# EAGLE library part BLACK_PILL_STM32 (library BLDC project)
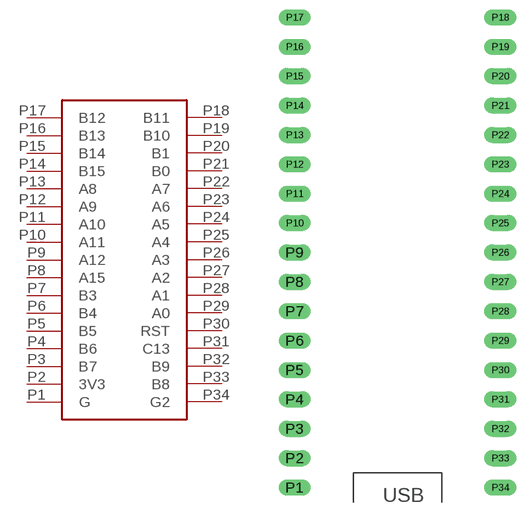
[diagram p1: symbol with the pads of BLACK_PILL_STM32; footprint BLACK_PILL_STM32]

Designator prefix -

## BLACK_PILL_STM32  [BLACK_PILL_STM32]
P1  G
P2  3V3
P3  B7
P4  B6
P5  B5
P6  B4
P7  B3
P8  A15
P9  A12
P10  A11
P11  A10
P12  A9
P13  A8
P14  B15
P15  B14
P16  B13
P17  B12
P18  B11
P19  B10
P20  B1
P21  B0
P22  A7
P23  A6
P24  A5
P25  A4
P26  A3
P27  A2
P28  A1
P29  A0
P30  RST
P31  C13
P32  B9
P33  B8
P34  G2

## Footprint BLACK_PILL_STM32 (pad centres in mm)
drill 0.889 long: P1 1.27,1.27; P2 1.27,3.81; P3 1.27,6.35; P4 1.27,8.89; P5 1.27,11.43; P6 1.27,13.97; P7 1.27,16.51; P8 1.27,19.05; P9 1.27,21.59; P10 1.27,24.13; P11 1.27,26.67; P12 1.27,29.21; P13 1.27,31.75; P14 1.27,34.29; P15 1.27,36.83; P16 1.27,39.37; P17 1.27,41.91; P18 19.05,41.91; P19 19.05,39.37; P20 19.05,36.83; P21 19.05,34.29; P22 19.05,31.75; P23 19.05,29.21; P24 19.05,26.67; P25 19.05,24.13; P26 19.05,21.59; P27 19.05,19.05; P28 19.05,16.51; P29 19.05,13.97; P30 19.05,11.43; P31 19.05,8.89; P32 19.05,6.35; P33 19.05,3.81; P34 19.05,1.27